# EAGLE library part 855025005 (library MyParts)
http://www.molex.com/pdm_docs/sd/855025005_sd.pdf http://www.newark.com/molex/85502-5005/jack-right-angle-smt-4-4/dp/54M3100
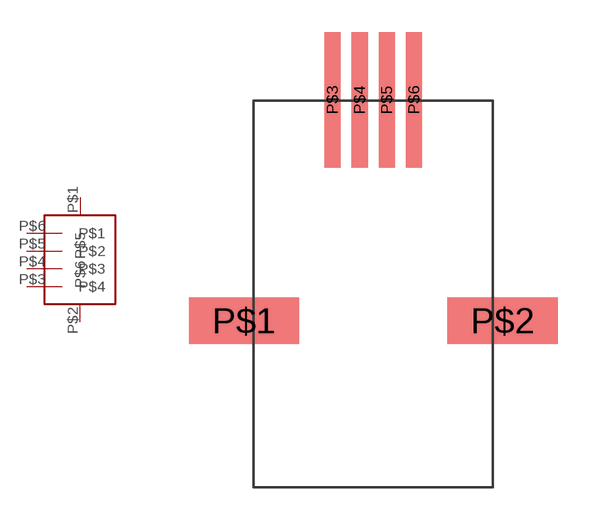
[diagram p14: symbol with the pads of 4P4C_MODULAR_JACKSMD; footprint 4P4C_MODULAR_JACKSMD]

Designator prefix -

## 855025005  [4P4C_MODULAR_JACKSMD]
P$1  P$5
P$2  P$6
P$3  P$4
P$4  P$3
P$5  P$2
P$6  P$1

## Footprint 4P4C_MODULAR_JACKSMD (pad centres in mm)
smd 5.15 x 2.18: P$1 -6.045,-1.25; P$2 6.045,-1.25
smd 0.76 x 6.35: P$3 -1.905,9.075; P$4 -0.635,9.075; P$5 0.635,9.075; P$6 1.905,9.075